# EAGLE library part E0-NOT-OFFICIAL (library Particle-Devices)
Particle E0 - Based on v005 Pinout - Not Official - Dev Use Only
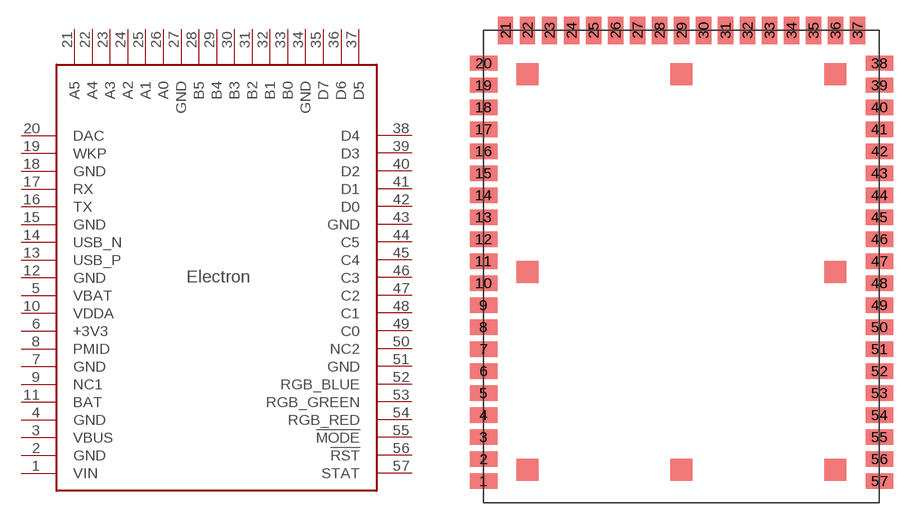
[diagram p6: symbol with the pads of E0-NOT-OFFICIAL; footprint E0-NOT-OFFICIAL]

Designator prefix -

## E0-NOT-OFFICIAL  [E0-NOT-OFFICIAL]
1  VIN
2  GND
3  VBUS
4  GND
5  VBAT
6  +3V3
7  GND
8  PMID
9  NC1
10  VDDA
11  BAT
12  GND
13  USB_P
14  USB_N
15  GND
16  TX
17  RX
18  GND
19  WKP
20  DAC
21  A5
22  A4
23  A3
24  A2
25  A1
26  A0
27  GND
28  B5
29  B4
30  B3
31  B2
32  B1
33  B0
34  GND
35  D7
36  D6
37  D5
38  D4
39  D3
40  D2
41  D1
42  D0
43  GND
44  C5
45  C4
46  C3
47  C2
48  C1
49  C0
50  NC2
51  GND
52  RGB_BLUE
53  RGB_GREEN
54  RGB_RED
55  !MODE
56  !RST
57  STAT

## Footprint E0-NOT-OFFICIAL (pad centres in mm)
Particle Electron E0 - Not Official EAGLE Device - Dev Use Only
smd 2.5 x 1.4: 1 0,2; 2 0,4; 3 0,6; 4 0,8; 5 0,10; 6 0,12; 7 0,14; 8 0,16; 9 0,18; 10 0,20; 11 0,22; 12 0,24; 13 0,26; 14 0,28; 15 0,30; 16 0,32; 17 0,34; 18 0,36; 19 0,38; 20 0,40; 38 36,40; 39 36,38; 40 36,36; 41 36,34; 42 36,32; 43 36,30; 44 36,28; 45 36,26; 46 36,24; 47 36,22; 48 36,20; 49 36,18; 50 36,16; 51 36,14; 52 36,12; 53 36,10; 54 36,8; 55 36,6; 56 36,4; 57 36,2
smd 1.4 x 2.5: 21 2,43; 22 4,43; 23 6,43; 24 8,43; 25 10,43; 26 12,43; 27 14,43; 28 16,43; 29 18,43; 30 20,43; 31 22,43; 32 24,43; 33 26,43; 34 28,43; 35 30,43; 36 32,43; 37 34,43